# EAGLE library part MDBT40 (library dragino)
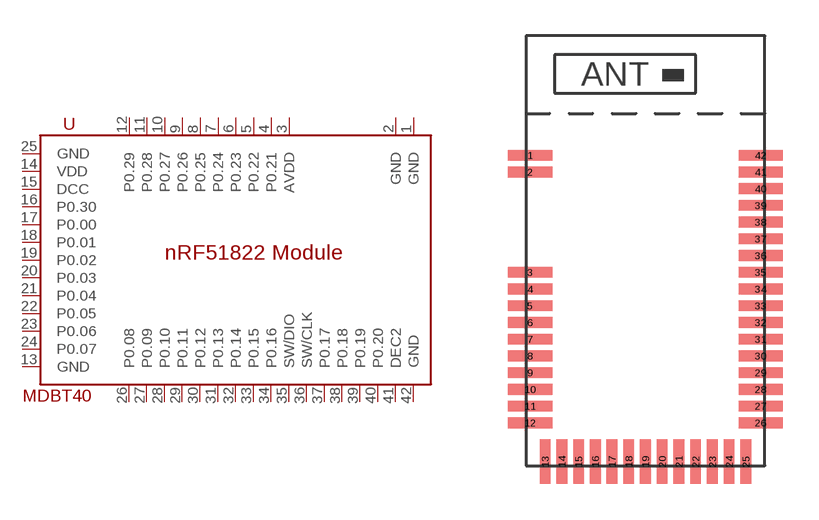
[diagram p31: symbol with the pads of MDBT40; footprint MDBT40]

Designator prefix -

## MDBT40  [MDBT40]
1  GND
2  GND
3  AVDD
4  P0.21
5  P0.22
6  P0.23
7  P0.24
8  P0.25
9  P0.26
10  P0.27
11  P0.28
12  P0.29
13  GND
14  VDD
15  DCC
16  P0.30
17  P0.00
18  P0.01
19  P0.02
20  P0.03
21  P0.04
22  P0.05
23  P0.06
24  P0.07
25  GND
26  P0.08
27  P0.09
28  P0.10
29  P0.11
30  P0.12
31  P0.13
32  P0.14
33  P0.15
34  P0.16
35  SW/DIO
36  SW/CLK
37  P0.17
38  P0.18
39  P0.19
40  P0.20
41  DEC2
42  GND

## Footprint MDBT40 (pad centres in mm)
smd 1.85 x 0.45: 1 0.175,13; 2 0.175,12.3; 3 0.175,8.1; 4 0.175,7.4; 5 0.175,6.7; 6 0.175,6; 7 0.175,5.3; 8 0.175,4.6; 9 0.175,3.9; 10 0.175,3.2; 11 0.175,2.5; 12 0.175,1.8; 26 9.825,1.8; 27 9.825,2.5; 28 9.825,3.2; 29 9.825,3.9; 30 9.825,4.6; 31 9.825,5.3; 32 9.825,6; 33 9.825,6.7; 34 9.825,7.4; 35 9.825,8.1; 36 9.825,8.8; 37 9.825,9.5; 38 9.825,10.2; 39 9.825,10.9; 40 9.825,11.6; 41 9.825,12.3; 42 9.825,13
smd 0.45 x 1.85: 13 0.8,0.175; 14 1.5,0.175; 15 2.2,0.175; 16 2.9,0.175; 17 3.6,0.175; 18 4.3,0.175; 19 5,0.175; 20 5.7,0.175; 21 6.4,0.175; 22 7.1,0.175; 23 7.8,0.175; 24 8.5,0.175; 25 9.2,0.175